# Altium footprint library 2017-07-30_02-04-41.PcbLib: 12 footprints
Each footprint in its own frame and in the unit in brackets; x right, y up, seen from the top. Pads: shape width x height; smd on the part's side, far side on the other; paste and mask are expansions set on the pad; w line width, h text height; cw(c..) or ccw(c..) is an arc to the next point about the centre after c.
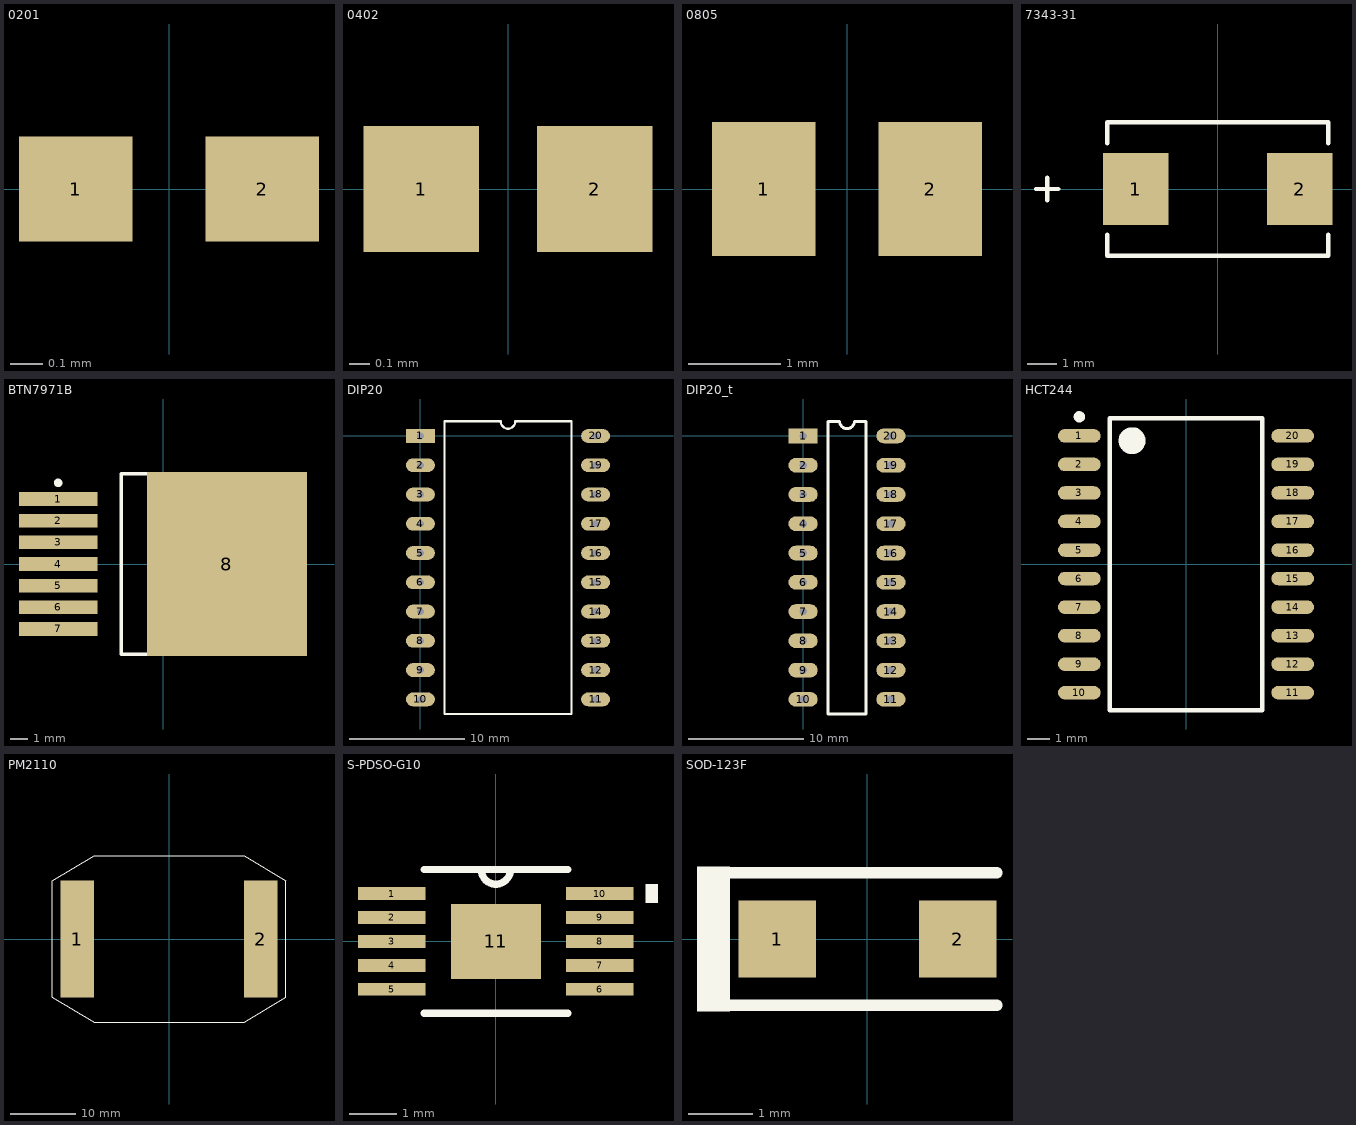
[diagram p0: the footprints below, top view; thin cyan lines are the x and y axes]

## 0201 [mil]
pads (2):
  rect 14x13 smd: 1(-11.5,0) 2(11.5,0)

## 0402 [mil]
pads (2):
  rect 22x24 smd: 1(-16.5,0) 2(16.5,0)

## 0805 [mil]
pads (2):
  rect 44x57 smd: 1(-35.5,0) 2(35.5,0)

## 7343-31 [mil]
pads (2):
  rect 89x98 smd: 1(-111,0) 2(111,0)
Top Overlay:
  lines w6: -246,0 -216,0 ; -231,-15 -231,15 ; -149.5,-62.1 -149.5,-90.5 149.5,-90.5 149.5,-62.1 ; -149.5,62.1 -149.5,90.5 149.5,90.5 149.5,62.1

## BTN7971B [mm]
height 4.4
pads (8):
  rect 4.6x0.8 smd: 1(-6.15,3.81) 2(-6.15,2.54) 3(-6.15,1.27) 4(-6.15,0) 5(-6.15,-1.27) 6(-6.15,-2.54) 7(-6.15,-3.81)
  rect 9.4x10.8 smd: 8(3.75,0)
Top Overlay:
  circle w0.25: c-6.15,4.76 r0.125
  lines w0.2: -0.85,-5.3 -2.45,-5.3 -2.45,5.3 -0.85,5.3

## DIP20 [mm]
pads (20):
  rect 2.5x1.2 hole 0.6: 1(0,0)
  oval 2.5x1.2 hole 0.6: 2(0,-2.54) 3(0,-5.08) 4(0,-7.62) 5(0,-10.16) 6(0,-12.7) 7(0,-15.24) 8(0,-17.78) 9(0,-20.32) 10(0,-22.86) 11(15.2,-22.86) 12(15.2,-20.32) 13(15.2,-17.78) 14(15.2,-15.24) 15(15.2,-12.7) 16(15.2,-10.16) 17(15.2,-7.62) 18(15.2,-5.08) 19(15.2,-2.54) 20(15.2,0)
Top Overlay:
  lines w0.2: 2.085,-24.13 2.085,1.27 6.965,1.27 ccw(c7.6,1.27) 8.235,1.27 13.115,1.27 13.115,-24.13 2.085,-24.13

## DIP20_t [mm]
pads (20):
  rect 2.54x1.27 hole 0.635: 1(0,0)
  oval 2.54x1.27 hole 0.635: 2(0,-2.54) 3(0,-5.08) 4(0,-7.62) 5(0,-10.16) 6(0,-12.7) 7(0,-15.24) 8(0,-17.78) 9(0,-20.32) 10(0,-22.86) 11(7.62,-22.86) 12(7.62,-20.32) 13(7.62,-17.78) 14(7.62,-15.24) 15(7.62,-12.7) 16(7.62,-10.16) 17(7.62,-7.62) 18(7.62,-5.08) 19(7.62,-2.54) 20(7.62,0)
Top Overlay:
  lines w0.254: 2.159,-24.13 2.159,1.27 3.175,1.27 ccw(c3.81,1.27) 4.445,1.27 5.461,1.27 5.461,-24.13 2.159,-24.13

## HCT244 [mm]
height 2.65
pads (20):
  oval 1.9x0.6 smd: 1(-4.75,5.715) 2(-4.75,4.445) 3(-4.75,3.175) 4(-4.75,1.905) 5(-4.75,0.635) 6(-4.75,-0.635) 7(-4.75,-1.905) 8(-4.75,-3.175) 9(-4.75,-4.445) 10(-4.75,-5.715) 11(4.75,-5.715) 12(4.75,-4.445) 13(4.75,-3.175) 14(4.75,-1.905) 15(4.75,-0.635) 16(4.75,0.635) 17(4.75,1.905) 18(4.75,3.175) 19(4.75,4.445) 20(4.75,5.715)
Top Overlay:
  circle w0.6: c-2.4,5.5 r0.3
  circle w0.25: c-4.75,6.565 r0.125
  lines w0.2: -3.4,-6.5 3.4,-6.5 3.4,6.5 -3.4,6.5 -3.4,-6.5

## PCBComponent_1 [mm]

## PM2110 [mm]
pads (2):
  rect 5.08x17.78 smd: 1(-13.97,0) 2(13.97,0)
Top Overlay:
  lines w0.152: -17.78,-8.89 -17.78,8.89 -11.43,12.7 11.43,12.7 17.78,8.89 17.78,-8.89 11.43,-12.7 -11.43,-12.7 -17.78,-8.89

## S-PDSO-G10 [mm]
pads (11):
  rect 1.411x0.27 smd: 1(-2.175,1) 2(-2.175,0.5) 3(-2.175,0) 4(-2.175,-0.5) 5(-2.175,-1) 6(2.175,-1) 7(2.175,-0.5) 8(2.175,0) 9(2.175,0.5) 10(2.175,1)
  rect 1.88x1.57 smd paste-0.927: 11(0,0)
Top Overlay:
  region: 3.135,1.191 3.389,1.191 3.389,0.81 3.135,0.81
  lines w0.152: -1.5,-1.5 1.5,-1.5 ; -1.5,1.5 1.5,1.5 ; -0.305,1.5 ccw(c0,1.5) 0.305,1.5
Top Paste:
  region: 0.94,0.785 -0.94,0.785 -0.94,-0.785 0.94,-0.785

## SOD-123F [mm]
pads (2):
  rect 1.2x1.2 smd paste-0.05 mask+0.051: 1(-1.4,0) 2(1.4,0)
Top Overlay:
  region: -2.642,1.118 -2.642,-1.118 -2.134,-1.118 -2.134,1.118
  lines w0.178: -2.311,-1.029 2.007,-1.029 ; -2.311,1.029 2.007,1.029